# EAGLE library part MEGASHILED (library Arduino)
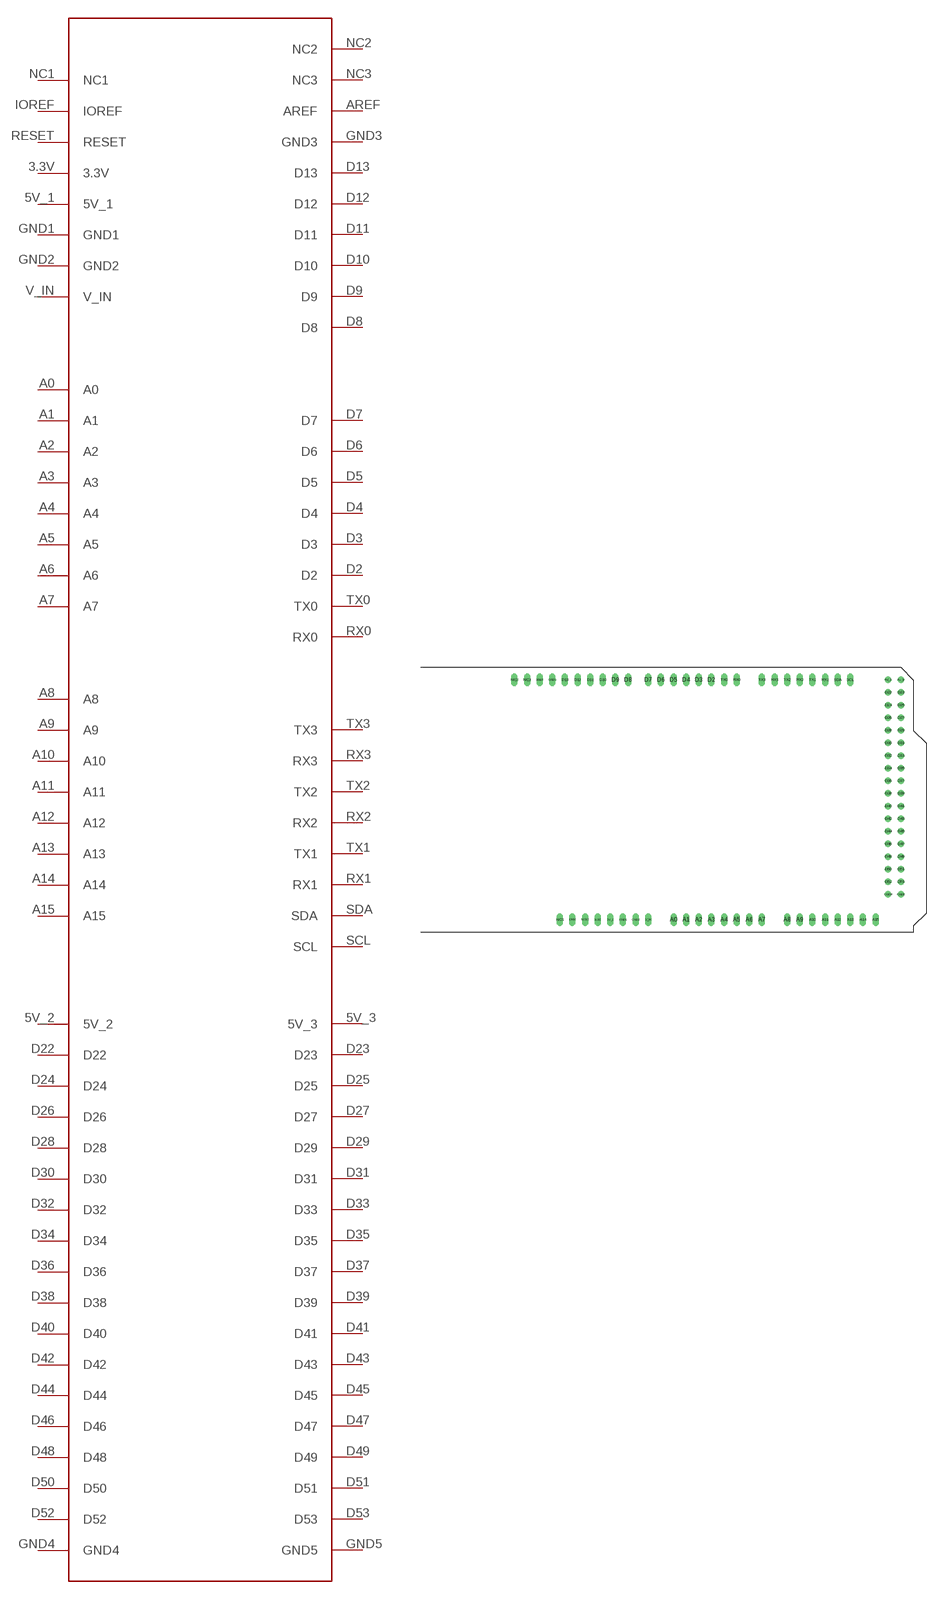
[diagram p0: symbol with the pads of MEGASHIELD; footprint MEGASHIELD]

Designator prefix -

## MEGASHILED  [MEGASHIELD]
3.3V  3.3V
5V_1  5V_1
5V_2  5V_2
5V_3  5V_3
A0  A0
A1  A1
A2  A2
A3  A3
A4  A4
A5  A5
A6  A6
A7  A7
A8  A8
A9  A9
A10  A10
A11  A11
A12  A12
A13  A13
A14  A14
A15  A15
AREF  AREF
D2  D2
D3  D3
D4  D4
D5  D5
D6  D6
D7  D7
D8  D8
D9  D9
D10  D10
D11  D11
D12  D12
D13  D13
D22  D22
D23  D23
D24  D24
D25  D25
D26  D26
D27  D27
D28  D28
D29  D29
D30  D30
D31  D31
D32  D32
D33  D33
D34  D34
D35  D35
D36  D36
D37  D37
D38  D38
D39  D39
D40  D40
D41  D41
D42  D42
D43  D43
D44  D44
D45  D45
D46  D46
D47  D47
D48  D48
D49  D49
D50  D50
D51  D51
D52  D52
D53  D53
GND1  GND1
GND2  GND2
GND3  GND3
GND4  GND4
GND5  GND5
IOREF  IOREF
NC1  NC1
NC2  NC2
NC3  NC3
RESET  RESET
RX0  RX0
RX1  RX1
RX2  RX2
RX3  RX3
SCL  SCL
SDA  SDA
TX0  TX0
TX1  TX1
TX2  TX2
TX3  TX3
V_IN  V_IN

## Footprint MEGASHIELD (pad centres in mm)
drill 0.8 long: 3.3V 35.56,2.54; 5V_1 38.1,2.54; A0 50.8,2.54; A1 53.34,2.54; A2 55.88,2.54; A3 58.42,2.54; A4 60.96,2.54; A5 63.5,2.54; A6 66.04,2.54; A7 68.58,2.54; A8 73.66,2.54; A9 76.2,2.54; A10 78.74,2.54; A11 81.28,2.54; A12 83.82,2.54; A13 86.36,2.54; A14 88.9,2.54; A15 91.44,2.54; AREF 23.876,50.8; D2 58.42,50.8; D3 55.88,50.8; D4 53.34,50.8; D5 50.8,50.8; D6 48.26,50.8; D7 45.72,50.8; D8 41.656,50.8; D9 39.116,50.8; D10 36.576,50.8; D11 34.036,50.8; D12 31.496,50.8; D13 28.956,50.8; GND1 40.64,2.54; GND2 43.18,2.54; GND3 26.416,50.8; IOREF 30.48,2.54; NC1 27.94,2.54; NC2 18.796,50.8; NC3 21.336,50.8; RESET 33.02,2.54; RX0 63.5,50.8; RX1 81.28,50.8; RX2 76.2,50.8; RX3 71.12,50.8; SCL 86.36,50.8; SDA 83.82,50.8; TX0 60.96,50.8; TX1 78.74,50.8; TX2 73.66,50.8; TX3 68.58,50.8; V_IN 45.72,2.54
drill 0.8: 5V_2 93.98,50.8; 5V_3 96.52,50.8; D22 93.98,48.26; D23 96.52,48.26; D24 93.98,45.72; D25 96.52,45.72; D26 93.98,43.18; D27 96.52,43.18; D28 93.98,40.64; D29 96.52,40.64; D30 93.98,38.1; D31 96.52,38.1; D32 93.98,35.56; D33 96.52,35.56; D34 93.98,33.02; D35 96.52,33.02; D36 93.98,30.48; D37 96.52,30.48; D38 93.98,27.94; D39 96.52,27.94; D40 93.98,25.4; D41 96.52,25.4; D42 93.98,22.86; D43 96.52,22.86; D44 93.98,20.32; D45 96.52,20.32; D46 93.98,17.78; D47 96.52,17.78; D48 93.98,15.24; D49 96.52,15.24; D50 93.98,12.7; D51 96.52,12.7; D52 93.98,10.16; D53 96.52,10.16; GND4 93.98,7.62; GND5 96.52,7.62